# Altium schematic symbol library inductor.SchLib: 6 symbols
Pins are listed as number, name and electrical type; pins without a type are passive.

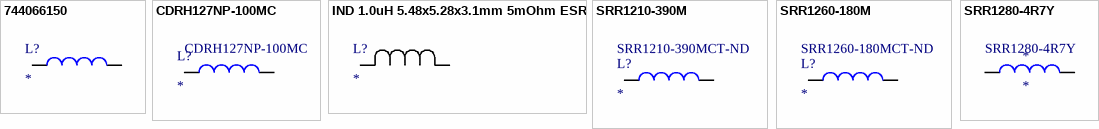
[diagram p0: symbols 744066150 to SRR1280-4R7Y]

## 744066150
designator L?
FIXED IND 15UH 3.2A 50 MOHM SMD; Manufacturer: Wurth Electronics; Manufacturer Part Number: 744066150; Core Material: Ferrite; Saturation Current: 3.25A; Tolerance: 30%; Shielding: Shielded; Self Resonant Frequency: 16MHz; DC Resistance (DCR): 50mR; Test Frequency: 100kHz; Supplier 1: Digi-Key; Stock 1: 1755; Pricing 1: 1=1.94000, 10=1.88200, 50=1.64600, 100=1.50500 (USD); RoHS: Yes; Mount: Surface Mount; Case/Package: Nonstandard; Weight: 0.044904oz; Min Operating Temperature: -40°C; Max Operating Temperature: 125°C; Package Quantity: 800; Current Rating: 3.2A; Packaging: Cut Tape; Inductance Tolerance: 30%; Inductance: 15uH; Composition: Wirewound; Max DC Current: 3.2A; Termination: SMD/SMT; RMS Current (Irms): 3.2A; Series Resistance: 50mR; Length: 10mm; Height: 3.8mm; Width: 10mm; Height - Seated (Max): 0.161inch; Depth: 10mm; REACH SVHC: Unknown; Lead Free: Lead Free; ComponentLink1URL: https://datasheet.ciiva.com/1051/744066150-1051985.pdf?src-supplier=Digi-Key; ComponentLink1Description: https://datasheet.ciiva.com/1051/744066150-1051985.pdf?src-supplier=Digi-Key; ComponentLink2URL: https://datasheet.ciiva.com/7892/1735619-7892648.pdf?src-supplier=Element14; ComponentLink2Description: https://datasheet.ciiva.com/7892/1735619-7892648.pdf?src-supplier=Element14; ComponentLink3URL: https://datasheet.ciiva.com/11803/0900766b80febc54-11803273.pdf?src-supplier=RSComponents; ComponentLink3Description: https://datasheet.ciiva.com/11803/0900766b80febc54-11803273.pdf?src-supplier=RSComponents; ComponentLink4URL: https://datasheet.ciiva.com/13320/744066150-67363-13320654.pdf?src-supplier=Mouser; ComponentLink4Description: https://datasheet.ciiva.com/13320/744066150-67363-13320654.pdf?src-supplier=Mouser; ComponentLink5URL: https://datasheet.ciiva.com/1051/744066150-1051986.pdf?src-supplier=Digi-Key; ComponentLink5Description: https://datasheet.ciiva.com/1051/744066150-1051986.pdf?src-supplier=Digi-Key; ComponentLink6URL: https://datasheet.ciiva.com/1051/744066150-1051987.pdf?src-supplier=Digi-Key; ComponentLink6Description: https://datasheet.ciiva.com/1051/744066150-1051987.pdf?src-supplier=Digi-Key; ComponentLink7URL: https://datasheet.ciiva.com/14123/744066150-ch-ger-eng-ds-14123723.pdf?src-supplier=Distrelec; ComponentLink7Description: https://datasheet.ciiva.com/14123/744066150-ch-ger-eng-ds-14123723.pdf?src-supplier=Distrelec; Supplier Part Number 1: 732-1077-1-ND
footprint INDP100100X38N
pins: 1, 2

## CDRH127NP-100MC
designator L?  Manufacturer Part Number: CDRH127NP-100MC
Fixed Inductors 10uH 5.4A; Manufacturer: Sumida; Core Material: Ferrite; Tolerance: 20%; Shielding: Shielded; DC Resistance (DCR): 21.6mR; Test Frequency: 1kHz; Supplier 1: Digi-Key; Stock 1: 1624; Pricing 1: 1=2.02, 10=1.863, 100=1.3041 (USD); Mount: Surface Mount; Case/Package: Nonstandard; Min Operating Temperature: -40°C; Max Operating Temperature: 100°C; Package Quantity: 1; Current Rating: 5.4A; Packaging: Tape and Reel; Inductance: 10uH; Max DC Current: 5.4A; Termination: SMD/SMT; DC Current: 5.4A; Military Standard: Not; Length: 12.3mm; Height: 8mm; Width: 0.472inch; Height - Seated (Max): 0.315inch; Depth: 12.3mm; Radiation Hardening: No; Lead Free: Lead Free; ComponentLink1URL: http://datasheet.iiic.cc/sumida/CDRH127NP-100MC.pdf?src-supplier=IIIC; ComponentLink1Description: http://datasheet.iiic.cc/sumida/CDRH127NP-100MC.pdf?src-supplier=IIIC; Supplier Part Number 1: 308-1457-6-ND
footprint INDP120120X80N (Precision Wire Wound Inductor, 2-Leads, Body 12.00x12.00mm, IPC Medium Density)
pins: 1, 2

## IND 1.0uH 5.48x5.28x3.1mm 5mOhm ESR
designator L?
XFL5030-102ME; Vendor: CoilCraft; Type: DEV; Value: 1.0uH; Tolerance: +-20%; Maximum DC Current: 28A; Inductance: 1uH; Qualification: AEC-Q200; Manufacturer_Part_Number: XFL5030-102ME; RefDes: RefDes; Do Not Populate: *; Temperature: -40C ~ 125C; Package / Case: 5.48mm x 5.28mm x 3.1mm; Height: 3.1mm; Link: https://www.mouser.com/ProductDetail/Coilcraft/XFL5030-102MEB?qs=sGAEpiMZZMsg%252by3WlYCkUy0Se8nYOmwuY%252bO5URw9yeY%3d; Datasheet: https://www.mouser.com/datasheet/2/597/xfl5030-1223909.pdf
footprint INDC5649X31N (Chip Inductor, 2-Leads, Body 5.60x4.90mm, IPC Medium Density)
pins: 1, 2

## SRR1210-390M
designator L?  Supplier Part Number 1: SRR1210-390MCT-ND
FIXED IND 39UH 4.2A 66 MOHM SMD; Manufacturer: Bourns; Manufacturer Part Number: SRR1210-390M; Core Material: Ferrite; Tolerance: 20%; DC Resistance (DCR): 66mR; Saturation Current: 3.5A; Shielding: Shielded; Q Factor: 16; Self Resonant Frequency: 4.5MHz; Test Frequency: 100kHz; Supplier 1: Digi-Key; Stock 1: 2802; Pricing 1: 1=1.33000, 10=1.23300, 100=0.89180 (USD); RoHS: Yes; Mount: Surface Mount; Case/Package: 1210; Min Operating Temperature: -40°C; Max Operating Temperature: 125°C; Inductance: 39uH; Max DC Current: 4.2A; Package Quantity: 250; Current Rating: 4.2A; Packaging: Tape and Reel; Composition: Wirewound; Termination: SMD/SMT; DC Current: 4.2A; Military Standard: Not; Inductance Tolerance: 20%; RMS Current (Irms): 4.2A; Length: 12mm; Height: 10mm; Width: 0.472inch; Height - Seated (Max): 0.394inch; Depth: 12.5mm; REACH SVHC: No SVHC; ComponentLink1URL: https://datasheet.ciiva.com/11799/0900766b80f2b72a-11799776.pdf?src-supplier=RSComponents; ComponentLink1Description: https://datasheet.ciiva.com/11799/0900766b80f2b72a-11799776.pdf?src-supplier=RSComponents; ComponentLink2URL: https://datasheet.ciiva.com/1073/srr1210-1073552.pdf?src-supplier=Digi-Key; ComponentLink2Description: https://datasheet.ciiva.com/1073/srr1210-1073552.pdf?src-supplier=Digi-Key; ComponentLink3URL: https://datasheet.ciiva.com/1073/srr1210-1073553.pdf?src-supplier=Digi-Key; ComponentLink3Description: https://datasheet.ciiva.com/1073/srr1210-1073553.pdf?src-supplier=Digi-Key; ComponentLink4URL: https://datasheet.ciiva.com/17285/srr1210-17285947.pdf?src-supplier=Avnet+Europe; ComponentLink4Description: https://datasheet.ciiva.com/17285/srr1210-17285947.pdf?src-supplier=Avnet+Europe; ComponentLink5URL: https://datasheet.ciiva.com/46437/1430851-46437259.pdf?src-supplier=Element14; ComponentLink5Description: https://datasheet.ciiva.com/46437/1430851-46437259.pdf?src-supplier=Element14; ComponentLink6URL: https://datasheet.ciiva.com/6697/srr1210-6697628.pdf?src-supplier=Digi-Key; ComponentLink6Description: https://datasheet.ciiva.com/6697/srr1210-6697628.pdf?src-supplier=Digi-Key; ComponentLink7URL: https://datasheet.ciiva.com/48684/srr1210-48684956.pdf?src-supplier=Avnet; ComponentLink7Description: https://datasheet.ciiva.com/48684/srr1210-48684956.pdf?src-supplier=Avnet
footprint INDM120120X100N (Molded Inductor, 2-Leads, Body 12.00x12.00mm, IPC Medium Density)
pins: 1, 2

## SRR1260-180M
designator L?  Supplier Part Number 1: SRR1260-180MCT-ND
Manufacturer: Bourns; Manufacturer Part Number: SRR1260-180M; Core Material: Ferrite; Material: Steel; Tolerance: 20%; Inductance: 18uH; Max DC Current: 4.2A; DC Resistance (DCR): 36mR; Self Resonant Frequency: 15.5MHz; Shielding: Shielded; Saturation Current: 3.9A; Test Frequency: 100kHz; Q Factor: 28; Supplier 1: Digi-Key; Stock 1: 6601; Pricing 1: 1=1.25000, 10=1.15900, 100=0.83780 (USD); RoHS: Yes; Mount: Surface Mount; Case/Package: 1260; Min Operating Temperature: -40°C; Max Operating Temperature: 125°C; Packaging: Tape and Reel; Termination: SMD/SMT; Current Rating: 4.2A; Package Quantity: 600; Military Standard: Not; Composition: Wirewound; DC Current: 4.2A; Inductance Tolerance: 20%; RMS Current (Irms): 4.2A; Frequency: 15.5MHz; Resistance: 36MR; Length: 12.5mm; Height: 6mm; Width: 12.5mm; Depth: 12.8mm; Height - Seated (Max): 0.256inch; REACH SVHC: No SVHC; ComponentLink1URL: https://datasheet.ciiva.com/7849/1430852-7849781.pdf?src-supplier=Element14; ComponentLink1Description: https://datasheet.ciiva.com/7849/1430852-7849781.pdf?src-supplier=Element14; ComponentLink2URL: https://datasheet.ciiva.com/7307/1914016-7307750.pdf?src-supplier=Newark; ComponentLink2Description: https://datasheet.ciiva.com/7307/1914016-7307750.pdf?src-supplier=Newark; ComponentLink3URL: https://datasheet.ciiva.com/6698/srr1260-6698858.pdf?src-supplier=Digi-Key; ComponentLink3Description: https://datasheet.ciiva.com/6698/srr1260-6698858.pdf?src-supplier=Digi-Key; ComponentLink4URL: https://datasheet.ciiva.com/8517/srr1260-8517126.pdf?src-supplier=Avnet; ComponentLink4Description: https://datasheet.ciiva.com/8517/srr1260-8517126.pdf?src-supplier=Avnet; ComponentLink5URL: https://datasheet.ciiva.com/1072/srr1260-1072875.pdf?src-supplier=Digi-Key; ComponentLink5Description: https://datasheet.ciiva.com/1072/srr1260-1072875.pdf?src-supplier=Digi-Key; ComponentLink6URL: https://datasheet.ciiva.com/1072/srr1260-1072876.pdf?src-supplier=Digi-Key; ComponentLink6Description: https://datasheet.ciiva.com/1072/srr1260-1072876.pdf?src-supplier=Digi-Key; ComponentLink7URL: https://datasheet.ciiva.com/17285/srr1260-17285822.pdf?src-supplier=Avnet+Europe; ComponentLink7Description: https://datasheet.ciiva.com/17285/srr1260-17285822.pdf?src-supplier=Avnet+Europe
footprint INDM125125X60N (Molded Inductor, 2-Leads, Body 12.50x12.50mm, IPC Medium Density)
pins: 1, 2

## SRR1280-4R7Y
designator *  Manufacturer Part Number: SRR1280-4R7Y
FIXED IND 4.7UH 8.2A 15.5 MOHM; Manufacturer: Bourns; Core Material: Ferrite; Tolerance: 30%; DC Resistance (DCR): 15.5mR; Frequency: 30MHz; Shielding: Shielded; Q Factor: 22; Saturation Current: 8.8A; Test Frequency: 100kHz; Supplier 1: Digi-Key; Stock 1: 5041; Pricing 1: 1=1.25, 10=1.159, 100=0.8378 (USD); Mount: Surface Mount; Case/Package: 1280; Material: Steel; Min Operating Temperature: -40°C; Max Operating Temperature: 125°C; Inductance: 4.7uH; Max DC Current: 8.2A; Packaging: Tape and Reel; Package Quantity: 400; Self Resonant Frequency: 30MHz; Current Rating: 8.2A; Inductance Tolerance: 30%; Resistance: 15.5MR; Termination: SMD/SMT; Composition: Wirewound; RMS Current (Irms): 8.2A; DC Current: 8.2A; Military Standard: Not; Length: 12.5mm; Height: 7.5mm; Width: 12.5mm; Height - Seated (Max): 0.315inch; Depth: 12.8mm; Radiation Hardening: No; REACH SVHC: No SVHC; ComponentLink1URL: http://www.bourns.com/data/global/pdfs/SRR1280.pdf?src-supplier=Avnet; ComponentLink1Description: http://www.bourns.com/data/global/pdfs/SRR1280.pdf?src-supplier=Avnet; ComponentLink2URL: http://uk.rs-online.com/webdocs/0ddd/0900766b80ddd400.pdf?src-supplier=RSComponents; ComponentLink2Description: http://uk.rs-online.com/webdocs/0ddd/0900766b80ddd400.pdf?src-supplier=RSComponents; ComponentLink3URL: http://www.bourns.com/docs/Product-Datasheets/SRR1280.pdf?src-supplier=Digi-Key; ComponentLink3Description: http://www.bourns.com/docs/Product-Datasheets/SRR1280.pdf?src-supplier=Digi-Key; ComponentLink4URL: https://www.bourns.com/docs/Product-Datasheets/SRR1280.pdf?src-supplier=Digi-Key; ComponentLink4Description: https://www.bourns.com/docs/Product-Datasheets/SRR1280.pdf?src-supplier=Digi-Key; ComponentLink5URL: http://www.bourns.com/data/global/pdfs/SRR1280.pdf?src-supplier=Avnet+Europe; ComponentLink5Description: http://www.bourns.com/data/global/pdfs/SRR1280.pdf?src-supplier=Avnet+Europe; ComponentLink6URL: https://www.verical.com/server-webapp/html/getDatasheet?partID=157012&src-supplier=Verical; ComponentLink6Description: https://www.verical.com/server-webapp/html/getDatasheet?partID=157012&src-supplier=Verical; Supplier Part Number 1: SRR1280-4R7YDKR-ND
footprint INDM120125X75N (Molded Inductor, 2-Leads, Body 12.00x12.50mm, IPC Medium Density)
pins: 1, 2